# Altium schematic symbol library AP7331.SchLib: 1 symbol
Pins are listed as number, name and electrical type; pins without a type are passive.

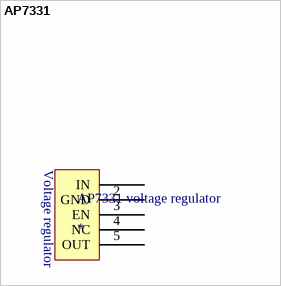
[diagram p0: symbol AP7331]

## AP7331
designator AP7331 voltage regulator
footprint AP7331
pins: 1 IN, 2 GND, 3 EN, 4 NC, 5 OUT
text: Voltage regulator